# Altium integrated library Atmel Industry Compatible CPLD.IntLib: 265 symbols (part 12 of 12)
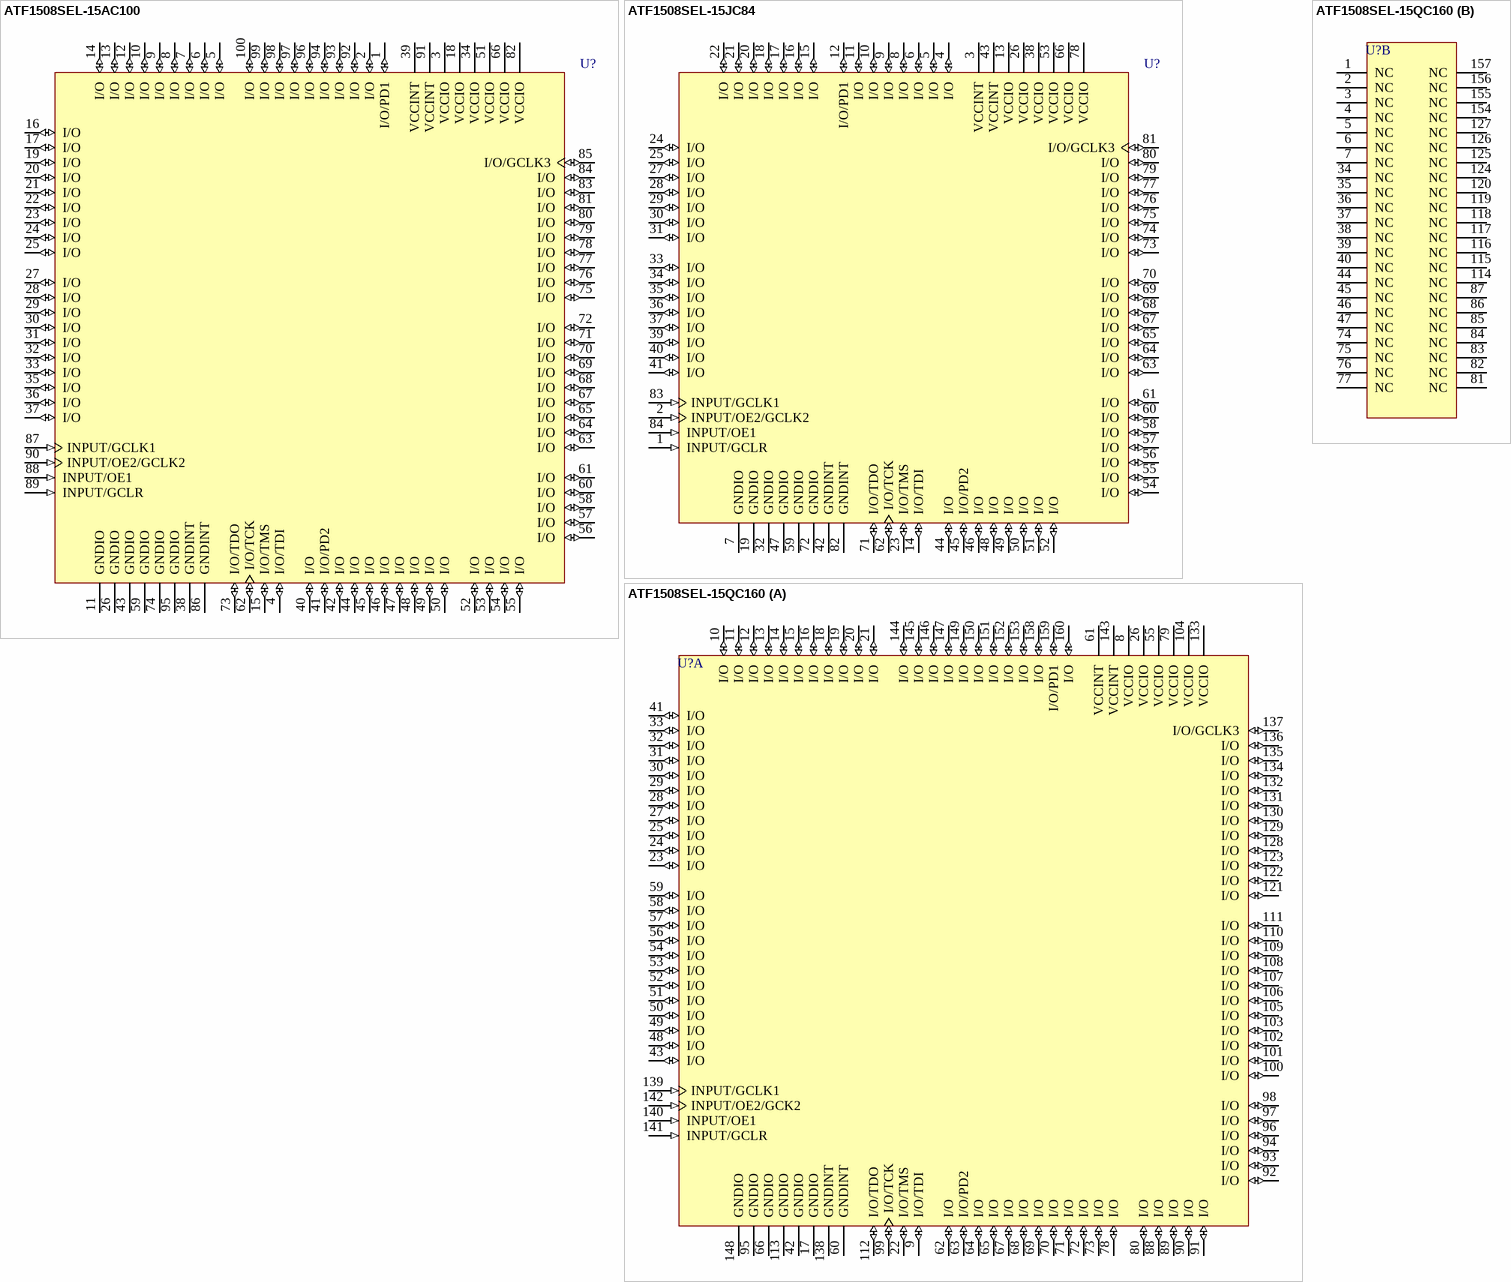
[diagram p57: symbols ATF1508SEL-15AC100 to ATF1508SEL-15QC160]

## ATF1508SEL-15QC160
designator U?
ATF1508SEL 5.0V CPLD, 128 Macrocells, 160-lead PQFP, Speed Grade 15, Commercial Grade; Published: 19-Mar-2004; LatestRevisionDate: 13-Apr-2006; LatestRevisionNote: IPC-7351 Footprint Added.; DatasheetVersion: Rev. 2401D-PLD-09/02; PackageVersion: rev.A, Mar-2002; PackageReference: 160Q1; Publisher: Altium Limited; PackageDescription: 160-Pin Quad Flat Pack 0.65 mm Pitch; Code_JEDEC: MS-022-DD-1; Code_IPC: QFP65P3120X3120-160; ComponentLink1Description: Manufacturer Link; ComponentLink1URL: http://www.atmel.com/products/pld/default.asp
footprint 160Q1_N (QFP, 160-Leads, Body 28 x 28mm, Pitch 0.65mm, IPC Medium Density)
footprint 160Q1_L (QFP, 160-Leads, Body 28 x 28mm, Pitch 0.65mm, IPC High Density)
footprint 160Q1_M (QFP, 160-Leads, Body 28 x 28mm, Pitch 0.65mm, IPC Low Density)
3D model ATF1508SEL-160Q1 (160-Pin Quad Flat Pack 0.65 mm Pitch)
part A pins: 8 VCCIO (power), 9 I/O/TDI (io), 10 I/O (io), 11 I/O (io), 12 I/O (io), 13 I/O (io), 14 I/O (io), 15 I/O (io), 16 I/O (io), 17 GNDIO (power), 18 I/O (io), 19 I/O (io), 20 I/O (io), 21 I/O (io), 22 I/O/TMS (io), 23 I/O (io), 24 I/O (io), 25 I/O (io), 26 VCCIO (power), 27 I/O (io), 28 I/O (io), 29 I/O (io), 30 I/O (io), 31 I/O (io), 32 I/O (io), 33 I/O (io), 41 I/O (io), 42 GNDIO (power), 43 I/O (io), 48 I/O (io), 49 I/O (io), 50 I/O (io), 51 I/O (io), 52 I/O (io), 53 I/O (io), 54 I/O (io), 55 VCCIO (power), 56 I/O (io), 57 I/O (io), 58 I/O (io), 59 I/O (io), 60 GNDINT (power), 61 VCCINT (power), 62 I/O (io), 63 I/O/PD2 (io), 64 I/O (io), 65 I/O (io), 66 GNDIO (power), 67 I/O (io), 68 I/O (io), 69 I/O (io), 70 I/O (io), 71 I/O (io), 72 I/O (io), 73 I/O (io), 78 I/O (io), 79 VCCIO (power), 80 I/O (io), 88 I/O (io), 89 I/O (io), 90 I/O (io), 91 I/O (io), 92 I/O (io), 93 I/O (io), 94 I/O (io), 95 GNDIO (power), 96 I/O (io), 97 I/O (io), 98 I/O (io), 99 I/O/TCK (io), 100 I/O (io), 101 I/O (io), 102 I/O (io), 103 I/O (io), 104 VCCIO (power), 105 I/O (io), 106 I/O (io), 107 I/O (io), 108 I/O (io), 109 I/O (io), 110 I/O (io), 111 I/O (io), 112 I/O/TDO (io), 113 GNDIO (power), 121 I/O (io), 122 I/O (io), 123 I/O (io), 128 I/O (io), 129 I/O (io), 130 I/O (io), 131 I/O (io), 132 I/O (io), 133 VCCIO (power), 134 I/O (io), 135 I/O (io), 136 I/O (io), 137 I/O/GCLK3 (io), 138 GNDINT (power), 139 INPUT/GCLK1 (in), 140 INPUT/OE1 (in), 141 INPUT/GCLR (in), 142 INPUT/OE2/GCK2 (in), 143 VCCINT (power), 144 I/O (io), 145 I/O (io), 146 I/O (io), 147 I/O (io), 148 GNDIO (power), 149 I/O (io), 150 I/O (io), 151 I/O (io), 152 I/O (io), 153 I/O (io), 158 I/O (io), 159 I/O/PD1 (io), 160 I/O (io)
part B pins: 1 NC, 2 NC, 3 NC, 4 NC, 5 NC, 6 NC, 7 NC, 34 NC, 35 NC, 36 NC, 37 NC, 38 NC, 39 NC, 40 NC, 44 NC, 45 NC, 46 NC, 47 NC, 74 NC, 75 NC, 76 NC, 77 NC, 81 NC, 82 NC, 83 NC, 84 NC, 85 NC, 86 NC, 87 NC, 114 NC, 115 NC, 116 NC, 117 NC, 118 NC, 119 NC, 120 NC, 124 NC, 125 NC, 126 NC, 127 NC, 154 NC, 155 NC, 156 NC, 157 NC